# Altium footprint library Resistance_PcbLib.PcbLib: 20 footprints (part 1 of 2)
Each footprint in its own frame and in the unit in brackets; x right, y up, seen from the top. Pads: shape width x height; smd on the part's side, far side on the other; paste and mask are expansions set on the pad; w line width, h text height; cw(c..) or ccw(c..) is an arc to the next point about the centre after c.
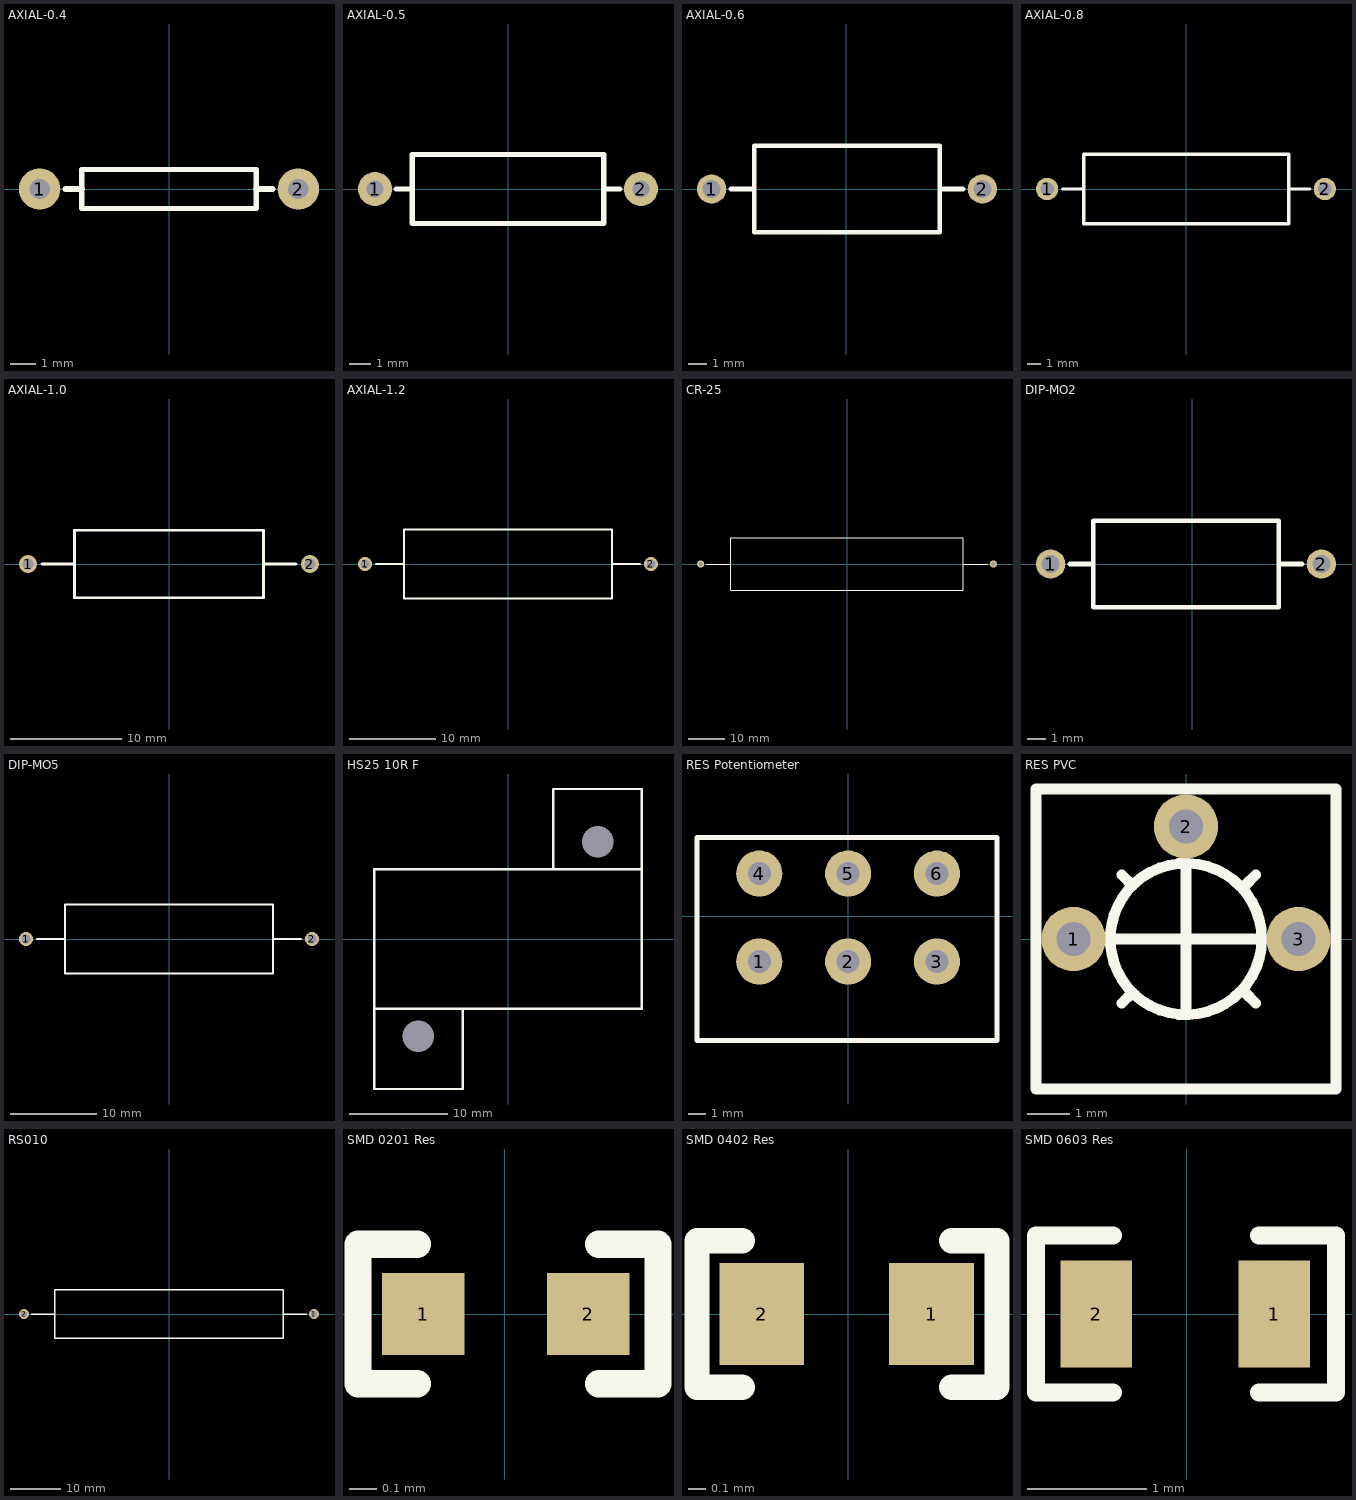
[diagram p0: the footprints below, top view; thin cyan lines are the x and y axes]

## AXIAL-0.4 [mil] "插板電阻 1/4W"
pads (2):
  round 64 hole 31.5: 1(-200,0) 2(200,0)
Top Overlay:
  lines w7.87: -135,-30 -135,30 135,30 135,-30 -135,-30
  lines w10: -160,0 -135,0 ; 135,0 160,0
3D body: height 95.81, standoff -119.69, extent -212,-45 212,46

## AXIAL-0.5 [mil] "插板電阻 1/2W"
pads (2):
  round 64 hole 31.5: 1(-250,0) 2(250,0)
Top Overlay:
  lines w10: -210,0 -180,0 ; 180,0 210,0 ; -180,-65 -180,65 180,65 180,-65 -180,-65
3D body: height 137.8, standoff -118.11, extent -260.63,-70 260.63,67.8

## AXIAL-0.6 [mil] "插板電阻 1W"
pads (2):
  round 64 hole 39.37: 1(-294.06,0) 2(296.5,0)
Top Overlay:
  lines w10: -252.72,0 -202.72,0 ; 205.16,0 255.16,0 ; -201.54,-94.49 203.98,-94.49 203.98,94.49 -201.54,94.49 -201.54,-94.49
3D body: height 196.85, standoff -118.11, extent -312.56,-98.43 315,98.42

## AXIAL-0.8 [mil] "插板電阻 2W"
pads (2):
  round 64 hole 39.37: 1(-400,0) 2(399.21,0)
Top Overlay:
  lines w10: -355,0 -295,0 ; 295,0 355,0 ; -295,-100 295,-100 295,100 -295,100 -295,-100

## AXIAL-1.0 [mil] "插板電阻 3W"
pads (2):
  round 64 hole 39.37: 1(-500,0) 2(500,0)
Top Overlay:
  lines w10: -450,0 -335,0 ; 335,0 450,0 ; -335,-120 -335,120 335,120 335,-120 -335,-120

## AXIAL-1.2 [mil] "插板電阻 5W"
pads (2):
  round 64 hole 39.37: 1(-650,0) 2(650,0)
Top Overlay:
  lines w10: -600,0 -472.5,0 ; 472.5,0 600,0 ; -472.5,-157.5 -472.5,157.5 472.5,157.5 472.5,-157.5 -472.5,-157.5
3D body: height 407.48, standoff -118.11, extent -665.75,-170 665.75,172.52

## CR-25 [mm]
pads (2):
  round 2 hole 1: 1(-40.259,0) 2(40.259,0)
Top Overlay:
  lines w0.2: -38.735,0 -32.004,0 ; 32.004,0 38.735,0 ; -32.004,-7.239 -32.004,7.239 32.004,7.239 32.004,-7.239 -32.004,-7.239

## DIP-MO2 [mil]
pads (2):
  round 64 hole 39.37: 1(-309.06,0) 2(281.5,0)
Top Overlay:
  lines w10: -267.72,0 -217.72,0 ; 190.16,0 240.16,0 ; -216.54,-94.49 -216.54,94.49 188.98,94.49 188.98,-94.49 -216.54,-94.49
3D body: height 196.85, standoff -118.11, extent -327.56,-98.43 300,98.42

## DIP-MO5 [mil] "5W 電阻使用"
pads (2):
  round 64 hole 39.37: 1(-650,0) 2(650,0)
Top Overlay:
  lines w10: -600,0 -472.5,0 ; 472.5,0 600,0 ; -472.5,-157.5 -472.5,157.5 472.5,157.5 472.5,-157.5 -472.5,-157.5
3D body: height 407.48, standoff -118.11, extent -665.75,-170 665.75,172.52

## HS25 10R F [mm]
pads (2):
  round 0 hole 3.2: 0(-9.156,-9.9) 0(9.144,9.9)
Top Overlay:
  lines w0.254: -4.63,-7.112 -4.63,-15.292 -13.658,-15.292 -13.658,-7.112 ; 4.618,7.112 4.618,15.292 13.647,15.292 13.647,7.112 ; -13.658,-7.112 13.647,-7.112 13.647,7.112 ; -13.658,-7.112 -13.658,7.112 13.647,7.112

## RES Potentiometer [mm] "碳模可變電阻 電位計"
pads (6):
  round 2.6 hole 1.3: 1(-5,-2.54) 2(0,-2.54) 3(5,-2.54) 4(-5,2.413) 5(0,2.413) 6(5,2.413)
Top Overlay:
  lines w0.254: -8.509,-6.985 8.382,-6.985 8.382,4.445 -8.509,4.445 -8.509,-6.985
3D body: height 20.5, standoff -4, extent -8.5,-36.18 8.5,4.67

## RES PVC [mil] "PCB 插板電位計"
pads (3):
  round 60 hole 31.5: 1(-105,0) 2(0,105) 3(105,0)
Top Overlay:
  circle w10: c0,0 r70.71
  lines w10: -70,0 70.71,0 ; -60,-60 -50,-50 ; -60,60 -50,50 ; 0,-65 0,65 ; 55,-50 65,-60 ; 55,50 65,60 ; -140,-140 -20,-140 0,-140 140,-140 140,140 -140,140 -140,-100 -140,-140
3D body: height 204.72, standoff -118.11, extent -135.82,-136.23 135.84,136.18

## RS010 [mm] "Vishay / Dale 10W"
pads (2):
  round 2 hole 1.2: 1(28.702,0) 2(-28.702,0)
Top Overlay:
  lines w0.254: -27.305,0 -22.606,0 ; 22.606,0 27.305,0 ; -22.606,-4.763 -22.606,4.763 22.606,4.763 22.606,-4.763 -22.606,-4.763

## SMD 0201 Res [mm] "SMD 0201電阻 1/20 (0.05)W"
pads (2):
  rect 0.3x0.3 smd mask+0.05: 1(-0.295,0) 2(0.305,0)
Top Overlay:
  lines w0.1: -0.318,-0.254 -0.533,-0.254 -0.533,0.254 -0.318,0.254 ; 0.343,-0.254 0.559,-0.254 0.559,0.254 0.343,0.254
3D body: height 0.22, standoff -0.01, extent -0.3,-0.15 0.3,0.15

## SMD 0402 Res [mm] "SMD 0603 電阻 1/16 (0.062)"
pads (2):
  rect 0.5x0.6 smd mask+0.05: 1(0.492,0) 2(-0.508,0)
Top Overlay:
  lines w0.15: -0.622,-0.432 -0.889,-0.432 -0.889,0.432 -0.622,0.432 ; 0.61,-0.432 0.876,-0.432 0.876,0.432 0.61,0.432
3D body: height 0.36, standoff -0.01, extent -0.525,-0.263 0.525,0.263

## SMD 0603 Res [mm] "SMD 0603 電阻 1/10 (0.10)"
pads (2):
  rect 0.6x0.9 smd: 1(0.738,0) 2(-0.762,0)
Top Overlay:
  lines w0.15: -0.622,-0.66 -1.27,-0.66 -1.27,0.66 -0.622,0.66 ; 0.61,-0.66 1.257,-0.66 1.257,0.66 0.61,0.66
3D body: height 0.45, standoff 0, extent -0.8,-0.4 0.8,0.4